# Altium footprint library nucleoduro_lib_audio.PcbLib: 17 footprints (part 1 of 2)
Each footprint in its own frame and in the unit in brackets; x right, y up, seen from the top. Pads: shape width x height; smd on the part's side, far side on the other; paste and mask are expansions set on the pad; w line width, h text height; cw(c..) or ccw(c..) is an arc to the next point about the centre after c.
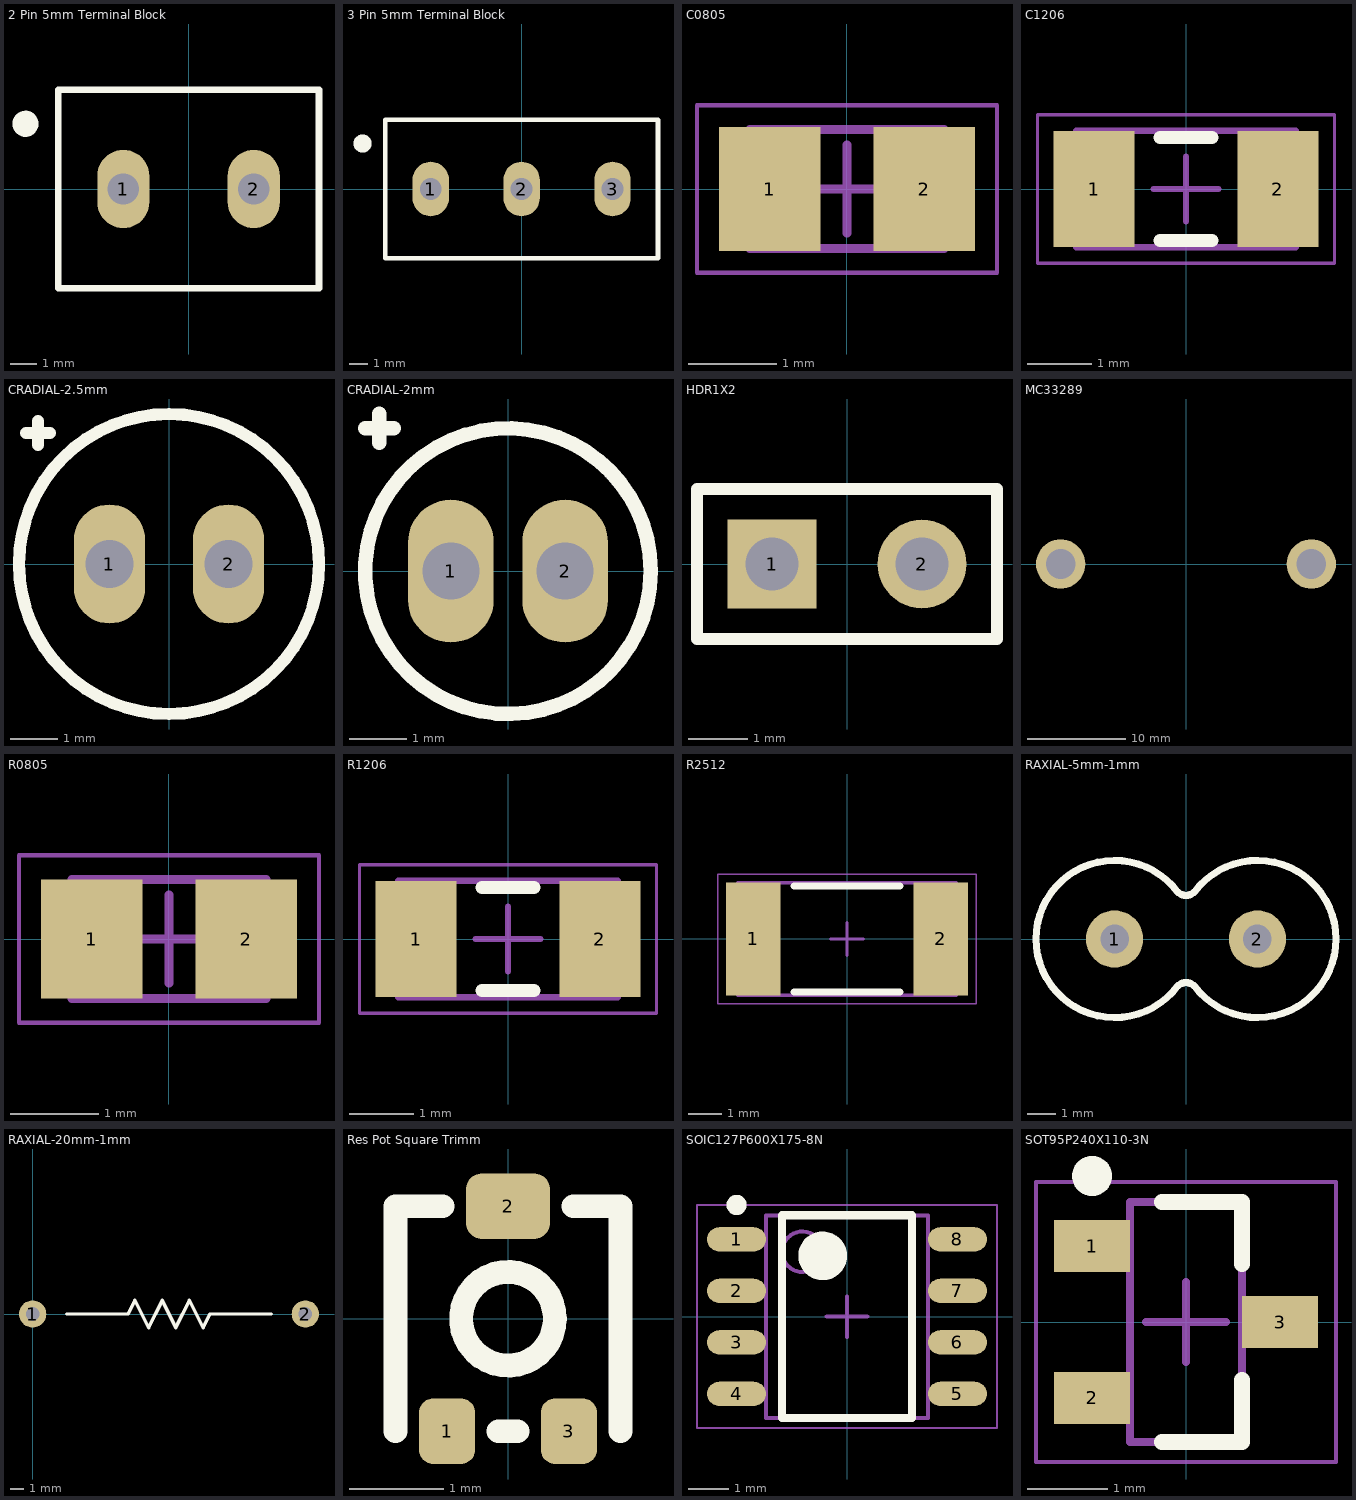
[diagram p0: the footprints below, top view; thin cyan lines are the x and y axes]

## 2 Pin 5mm Terminal Block [mm]
height 10
pads (2):
  oval 2x3 hole 1.2: 1(-2.5,0) 2(2.5,0)
Top Overlay:
  circle w0.5: c-6.25,2.5 r0.25
  lines w0.254: -5,-3.8 5,-3.8 5,3.8 0,3.8 -5,3.8 -5,-3.8
3D body: height 4.5, standoff 1.5, extent 0.5,-3 4.5,2.25
3D body: height 1.5, standoff 1, extent 0.5,-3 4.5,2.25
3D body: height 9, standoff 8, extent 1.088,-1.412 3.912,1.412
3D body: height 10, standoff 8, extent 0,-3.8 5,3.8
3D body: height 5, standoff 1, extent 0,-3.8 5,3.8
3D body: height 1, standoff 0, extent 0,-3.8 5,3.8
3D body: height 0, standoff -3, extent 2,-0.5 3,0.5
3D body: height 8, standoff 5, extent 0,-3.8 5,3.8
3D body: height 10, standoff 9, extent 1.112,0.183 3.888,1.412
3D body: height 10, standoff 9, extent 1.112,-1.412 3.888,-0.183
3D body: height 5, standoff 4.5, extent 0.5,-3 4.5,2.25
3D body: height 5, standoff 4.5, extent -4.5,-3 -0.5,2.25
3D body: height 10, standoff 9, extent -3.888,-1.412 -1.112,-0.183
3D body: height 10, standoff 9, extent -3.888,0.183 -1.112,1.412
3D body: height 8, standoff 5, extent -5,-3.8 0,3.8
3D body: height 0, standoff -3, extent -3,-0.5 -2,0.5
3D body: height 1, standoff 0, extent -5,-3.8 0,3.8
3D body: height 5, standoff 1, extent -5,-3.8 0,3.8
3D body: height 10, standoff 8, extent -5,-3.8 0,3.8
3D body: height 9, standoff 8, extent -3.912,-1.412 -1.088,1.412
3D body: height 1.5, standoff 1, extent -4.5,-3 -0.5,2.25
3D body: height 4.5, standoff 1.5, extent -4.5,-3 -0.5,2.25

## 3 Pin 5mm Terminal Block [mm]
height 10
pads (3):
  oval 2x3 hole 1.2: 1(-5,0) 2(0,0) 3(5,0)
Top Overlay:
  circle w0.5: c-8.75,2.5 r0.25
  lines w0.254: -7.5,-3.8 -7.5,3.8 7.5,3.8 7.5,-3.8 -7.5,-3.8
3D body: height 0, standoff -3, extent -0.5,-0.5 0.5,0.5
3D body: height 0, standoff -3, extent 4.5,-0.5 5.5,0.5
3D body: height 5, standoff 4.5, extent -7,-3 -3,2.25
3D body: height 10, standoff 9, extent -6.388,-1.412 -3.612,-0.183
3D body: height 10, standoff 9, extent -6.388,0.183 -3.612,1.412
3D body: height 8, standoff 5, extent -7.5,-3.8 -2.5,3.8
3D body: height 0, standoff -3, extent -5.5,-0.5 -4.5,0.5
3D body: height 1, standoff 0, extent -7.5,-3.8 -2.5,3.8
3D body: height 5, standoff 1, extent -7.5,-3.8 -2.5,3.8
3D body: height 10, standoff 8, extent -7.5,-3.8 -2.5,3.8
3D body: height 9, standoff 8, extent -6.412,-1.412 -3.588,1.412
3D body: height 1.5, standoff 1, extent -7,-3 -3,2.25
3D body: height 4.5, standoff 1.5, extent -7,-3 -3,2.25
3D body: height 5, standoff 4.5, extent -2,-3 2,2.25
3D body: height 10, standoff 9, extent -1.388,-1.412 1.388,-0.183
3D body: height 10, standoff 9, extent -1.388,0.183 1.388,1.412
3D body: height 8, standoff 5, extent -2.5,-3.8 2.5,3.8
3D body: height 1, standoff 0, extent -2.5,-3.8 2.5,3.8
3D body: height 5, standoff 1, extent -2.5,-3.8 2.5,3.8
3D body: height 10, standoff 8, extent -2.5,-3.8 2.5,3.8
3D body: height 9, standoff 8, extent -1.412,-1.412 1.412,1.412
3D body: height 1.5, standoff 1, extent -2,-3 2,2.25
3D body: height 4.5, standoff 1.5, extent -2,-3 2,2.25
3D body: height 5, standoff 4.5, extent 3,-3 7,2.25
3D body: height 10, standoff 9, extent 3.612,-1.412 6.388,-0.183
3D body: height 10, standoff 9, extent 3.612,0.183 6.388,1.412
3D body: height 8, standoff 5, extent 2.5,-3.8 7.5,3.8
3D body: height 1, standoff 0, extent 2.5,-3.8 7.5,3.8
3D body: height 5, standoff 1, extent 2.5,-3.8 7.5,3.8
3D body: height 10, standoff 8, extent 2.5,-3.8 7.5,3.8
3D body: height 9, standoff 8, extent 3.588,-1.412 6.412,1.412
3D body: height 1.5, standoff 1, extent 3,-3 7,2.25
3D body: height 4.5, standoff 1.5, extent 3,-3 7,2.25

## C0805 [mm] "Chip Capacitor, 2-Leads, Body 2,00x1,25mm, IPC Medium Density"
height 0.7
pads (2):
  rect 1.15x1.4 smd: 1(-0.875,0) 2(0.875,0)
Mechanical 13:
  lines w0.1: -1.1,-0.675 -1.1,0.675 1.1,0.675 1.1,-0.675 -1.1,-0.675
Mechanical 15:
  lines w0.05: -1.7,-0.95 -1.7,0.95 1.7,0.95 1.7,-0.95 -1.7,-0.95
  lines w0.1: -0.5,0 0.5,0 ; 0,-0.5 0,0.5
3D body: height 0.7, standoff 0, extent -0.7,-0.675 0.7,0.675
3D body: height 0.7, standoff 0, extent -1.1,-0.675 -0.7,0.675
3D body: height 0.7, standoff 0, extent 0.7,-0.675 1.1,0.675

## C1206 [mm] "Chip Capacitor, 2-Leads, Body 3,20x1,60mm, IPC Medium Density"
height 0.7
pads (2):
  rect 1.25x1.8 smd: 1(-1.425,0) 2(1.425,0)
Top Overlay:
  lines w0.2: -0.4,-0.8 0.4,-0.8 ; -0.4,0.8 0.4,0.8
Mechanical 13:
  lines w0.1: -1.7,-0.9 -1.7,0.9 1.7,0.9 1.7,-0.9 -1.7,-0.9
Mechanical 15:
  lines w0.05: -2.3,-1.15 -2.3,1.15 2.3,1.15 2.3,-1.15 -2.3,-1.15
  lines w0.1: -0.5,0 0.5,0 ; 0,-0.5 0,0.5
3D body: height 0.7, standoff 0, extent -1.2,-0.9 1.2,0.9
3D body: height 0.7, standoff 0, extent -1.7,-0.9 -1.2,0.9
3D body: height 0.7, standoff 0, extent 1.2,-0.9 1.7,0.9

## CRADIAL-2.5mm [mm]
height 10
pads (2):
  oval 1.5x2.5 hole 1: 1(-1.25,0) 2(1.25,0)
Top Overlay:
  circle w0.254: c0,0 r3.15
  lines w0.254: -3,2.75 -2.75,2.75 -2.5,2.75 ; -2.75,2.5 -2.75,3
3D body: height 12, standoff 1, extent -3.144,-3.148 3.15,3.149
3D body: height 0, standoff -3, extent -1.65,-0.4 -0.85,0.4
3D body: height 0, standoff -3, extent 0.85,-0.4 1.65,0.4

## CRADIAL-2mm [mm]
height 10
pads (2):
  oval 1.5x2.5 hole 1: 1(-1,0) 2(1,0)
Top Overlay:
  circle w0.254: c0,0 r2.5
  lines w0.254: -2.5,2.5 -2.25,2.5 -2,2.5 ; -2.25,2.25 -2.25,2.75
3D body: height 12, standoff 1, extent -2.494,-2.498 2.5,2.499
3D body: height 0, standoff -3, extent -1.4,-0.4 -0.6,0.4
3D body: height 0, standoff -3, extent 0.6,-0.4 1.4,0.4

## HDR1X2 [mm] "Connector; Header; 2 Position"
pads (2):
  rect 1.5x1.5 hole 0.9: 1(-1.27,0)
  round 1.5 hole 0.9: 2(1.27,0)
Top Overlay:
  lines w0.2: -2.54,-1.27 -2.54,1.27 2.54,1.27 2.54,-1.27 -2.54,-1.27
3D body: height 2.54, standoff 0, extent -2.52,1 -0.02,1.25
3D body: height 2.54, standoff 0, extent -2.52,-1.25 -0.02,-1
3D body: height 2.54, standoff 0.5, extent -2.52,-1 -0.02,1
3D body: height 8.5, standoff -3, extent -1.57,-0.3 -0.97,0.3
3D body: height 8.5, standoff -3, extent 0.97,-0.3 1.57,0.3
3D body: height 2.54, standoff 0.5, extent 0.02,-1 2.52,1
3D body: height 2.54, standoff 0, extent 0.02,-1.25 2.52,-1
3D body: height 2.54, standoff 0, extent 0.02,1 2.52,1.25

## MC33289 [mm]
height 38
pads (2):
  round 5 hole 3: ""(-12.7,0) ""(12.7,0)
3D body: height 3, standoff -1, extent 10.103,-2.599 15.3,2.599
3D body: height 3, standoff -1, extent -15.297,-2.599 -10.1,2.599
3D body: height 38, standoff 0.5, extent -17.2,-6 17.2,6.5
3D body: height -0.4, standoff -5.6, extent -15.297,-2.599 -10.102,2.6
3D body: height -0.4, standoff -5.6, extent 10.103,-2.599 15.298,2.6

## R0805 [mm] "Chip Resistor, 2-Leads, Body 2,00x1,25mm, IPC Medium Density"
height 0.7
pads (2):
  rect 1.15x1.35 smd: 1(-0.875,0) 2(0.875,0)
Mechanical 13:
  lines w0.1: -1.1,-0.675 -1.1,0.675 1.1,0.675 1.1,-0.675 -1.1,-0.675
Mechanical 15:
  lines w0.05: -1.7,-0.95 -1.7,0.95 1.7,0.95 1.7,-0.95 -1.7,-0.95
  lines w0.1: -0.5,0 0.5,0 ; 0,-0.5 0,0.5
3D body: height 0.7, standoff 0, extent -0.7,-0.675 0.7,0.675
3D body: height 0.7, standoff 0, extent -1.1,-0.675 -0.7,0.675
3D body: height 0.7, standoff 0, extent 0.7,-0.675 1.1,0.675

## R1206 [mm] "Chip Resistor, 2-Leads, Body 3,20x1,60mm, IPC Medium Density"
height 0.7
pads (2):
  rect 1.25x1.8 smd: 1(-1.425,0) 2(1.425,0)
Top Overlay:
  lines w0.2: -0.4,-0.8 0.4,-0.8 ; -0.4,0.8 0.4,0.8
Mechanical 13:
  lines w0.1: -1.7,-0.9 -1.7,0.9 1.7,0.9 1.7,-0.9 -1.7,-0.9
Mechanical 15:
  lines w0.05: -2.3,-1.15 -2.3,1.15 2.3,1.15 2.3,-1.15 -2.3,-1.15
  lines w0.1: -0.5,0 0.5,0 ; 0,-0.5 0,0.5
3D body: height 0.7, standoff 0, extent -1.2,-0.9 1.2,0.9
3D body: height 0.7, standoff 0, extent -1.7,-0.9 -1.2,0.9
3D body: height 0.7, standoff 0, extent 1.2,-0.9 1.7,0.9

## R2512 [mm] "Chip Resistor, 2-Leads, Body 6,40x3,20mm, IPC Medium Density"
height 0.9
pads (2):
  rect 1.65x3.4 smd: 1(-2.825,0) 2(2.825,0)
Top Overlay:
  lines w0.2: -1.6,-1.6 1.6,-1.6 ; -1.6,1.6 1.6,1.6
Mechanical 13:
  lines w0.1: -3.3,-1.7 -3.3,1.7 3.3,1.7 3.3,-1.7 -3.3,-1.7
Mechanical 15:
  lines w0.05: -3.9,-1.95 -3.9,1.95 3.9,1.95 3.9,-1.95 -3.9,-1.95
  lines w0.1: -0.5,0 0.5,0 ; 0,-0.5 0,0.5
3D body: height 0.9, standoff 0, extent -2.4,-1.7 2.4,1.7
3D body: height 0.9, standoff 0, extent -3.3,-1.7 -2.4,1.7
3D body: height 0.9, standoff 0, extent 2.4,-1.7 3.3,1.7

## RAXIAL-5mm-1mm [mm] "Axial 3W resistor"
height 20
pads (2):
  round 2 hole 1: 1(-2.5,0) 2(2.5,0)
Top Overlay:
  lines w0.25: -0.3,-1.65 cw(c-2.5,0) -0.3,1.65 ccw(c0,1.95) 0.3,1.65 cw(c2.5,0) 0.3,-1.65 ccw(c0,-1.95) -0.3,-1.65
3D body: height 19, standoff 17, extent -2.8,-0.3 -2.2,0.3
3D body: height 17, standoff 1, extent -5.242,-2.748 0.25,2.748
3D body: height 1, standoff -2, extent -2.8,-0.3 -2.2,0.3
3D body: height 19, standoff -2, extent 2.2,-0.3 2.8,0.3
3D body: height 19, standoff 18.4, extent -2.2,-0.3 2.2,0.3

## RAXIAL-20mm-1mm [mm] "Axial 3W resistor"
height 5.5
pads (2):
  round 2 hole 1: 1(0,0) 2(20,0)
Top Overlay:
  lines w0.254: 2.5,0 7,0 7.5,1 8.5,-1 9.5,1 10.5,-1 11.5,1 12.5,-1 13,0 17.5,0

## Res Pot Square Trimm [mm]
height 1
pads (3):
  rrect50% 0.6x0.7 smd: 1(-0.65,-1.2) 3(0.65,-1.2)
  rrect50% 0.9x0.7 smd: 2(0,1.2)
Top Overlay:
  circle w0.254: c0,0 r0.5
  lines w0.254: -1.2,-1.2 -1.2,0 -1.2,1.2 -0.7,1.2 ; -0.1,-1.2 0.1,-1.2 ; 0.7,1.2 1.2,1.2 1.2,-1.2
3D body: height 1.25, standoff 0, extent -0.908,-0.908 0.908,0.908
3D body: height 1, standoff 0, extent -1.2,-1.2 1.2,1.2
3D body: height 1.1, standoff 0, extent -0.916,-0.916 0.916,0.916

## SOIC127P600X175-8N [mm] "SOIC, 8-Leads, Body 4,90x3,90mm, Pitch 1,27mm, IPC Medium Density"
height 1.75
pads (8):
  oval 1.45x0.6 smd: 1(-2.725,1.905) 2(-2.725,0.635) 3(-2.725,-0.635) 4(-2.725,-1.905) 5(2.725,-1.905) 6(2.725,-0.635) 7(2.725,0.635) 8(2.725,1.905)
Top Overlay:
  circle w0.6: c-0.6,1.5 r0.3
  circle w0.25: c-2.725,2.755 r0.125
  lines w0.2: -1.6,-2.5 1.6,-2.5 1.6,2.5 -1.6,2.5 -1.6,-2.5
Mechanical 13:
  circle w0.1: c-1.1,1.6 r0.5
  lines w0.1: -2,-2.5 2,-2.5 2,2.5 -2,2.5 -2,-2.5
Mechanical 15:
  lines w0.05: -3.7,-2.75 3.7,-2.75 3.7,2.75 -3.7,2.75 -3.7,-2.75
  lines w0.1: -0.5,0 0.5,0 ; 0,-0.5 0,0.5
3D body: height 1.75, standoff 0.1, extent -2,-2.5 2,2.5

## SOT95P240X110-3N [mm] "SOT23, 3-Leads, Body 2,90x2,40mm, Pitch 0,95mm, IPC Medium Density"
height 1.1
pads (3):
  rect 0.95x0.65 smd: 1(-1.175,0.95) 2(-1.175,-0.95) 3(1.175,0)
Top Overlay:
  circle w0.25: c-1.175,1.825 r0.125
  lines w0.2: -0.3,-1.5 0.7,-1.5 0.7,-0.725 ; -0.3,1.5 0.7,1.5 0.7,0.725
Mechanical 13:
  lines w0.1: -0.7,-1.5 -0.7,1.5 0.7,1.5 0.7,-1.5 -0.7,-1.5
Mechanical 15:
  lines w0.05: -1.875,-1.75 -1.875,1.75 1.875,1.75 1.875,-1.75 -1.875,-1.75
  lines w0.1: -0.5,0 0.5,0 ; 0,-0.5 0,0.5
3D body: height 1.1, standoff 0.1, extent -0.7,-1.5 0.7,1.5